# EAGLE library part KF120-6P (library home)
Kaweei KF120-6P 6-pin screw terminalblock, 0.1" spacing. Adafruit
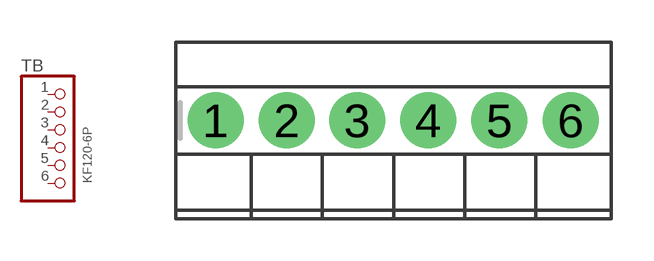
[diagram p2: symbol with the pads of KF120-6P_ROUND; footprint KF120-6P_ROUND]

Designator prefix TB

## KF120-6P  [KF120-6P_ROUND]
1  1  pas
2  2  pas
3  3  pas
4  4  pas
5  5  pas
6  6  pas

## Footprint KF120-6P_ROUND (pad centres in mm)
drill 1.2 pad 2: 1 -6.35,0; 2 -3.81,0; 3 -1.3,0; 4 1.24,0; 5 3.78,0; 6 6.32,0